# Altium schematic symbol library Common.SchLib: 4 symbols
Pins are listed as number, name and electrical type; pins without a type are passive.

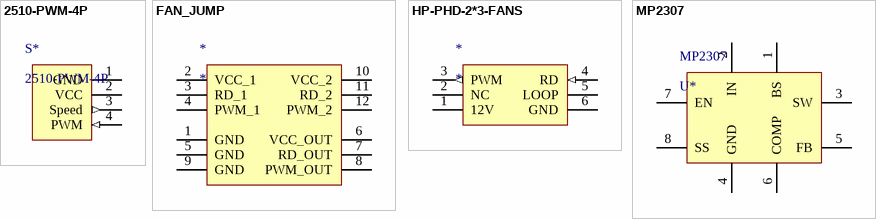
[diagram p0: symbols 2510-PWM-4P to MP2307]

## 2510-PWM-4P
designator S*
footprint 2510-PWM-4PIN
pins: 1 GND, 2 VCC (power), 3 Speed (out), 4 PWM (in)

## FAN_JUMP
designator *
footprint FAN_JUMP
pins: 1 GND, 2 VCC_1, 3 RD_1, 4 PWM_1, 5 GND, 6 VCC_OUT, 7 RD_OUT, 8 PWM_OUT, 9 GND, 10 VCC_2, 11 RD_2, 12 PWM_2

## HP-PHD-2*3-FANS
designator *
footprint PHD-2*3AW
pins: 1 12V (power), 2 NC, 3 PWM (out), 4 RD (in), 5 LOOP, 6 GND

## MP2307
designator MP2307, comment U*
MP2307 – 3A, 23V, 340KHz SYNCHRONOUS RECTIFIED STEP-DOWN CONVERTER
footprint LC-SOP-8_EP_150mil
pins: 1 BS, 2 IN, 3 SW, 4 GND, 5 FB, 6 COMP, 7 EN, 8 SS